# Altium schematic symbol library ADS8688.SchLib: 5 symbols
Pins are listed as number, name and electrical type; pins without a type are passive.

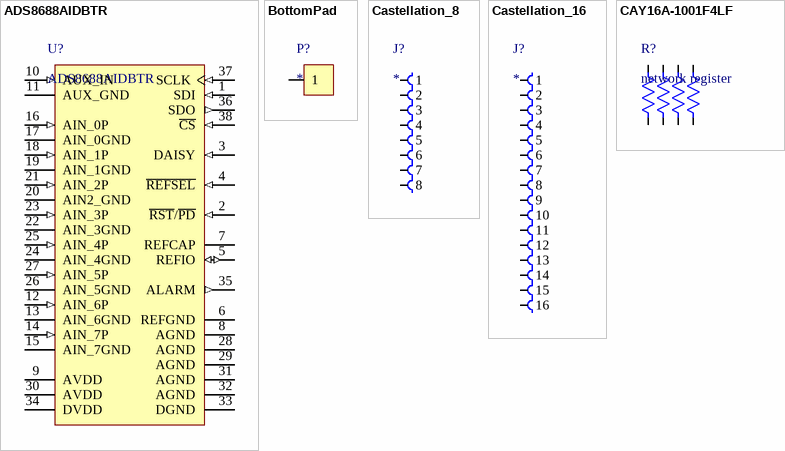
[diagram p0: symbols ADS8688AIDBTR to CAY16A-1001F4LF]

## ADS8688AIDBTR
designator U?
Single-Supply, SAR ADCs with Bipolar Input Ranges, 16 Bits, 500 kSPS, 8 Channel, -40 to 125 degC, 38-Pin TSSOP (DBT), Green (RoHS & no Sb/Br), Tape and Reel; Manufacturer: Texas Instruments; PartNumber: ADS8688IDBTR; THD: -102 dB; SNR: 92 dB; AVDD: 4.75 to 5.25 V; Input Channel: 8; Resolution: 16 Bits; Eco-Plan: Green (RoHS & no Sb/Br); Temperature Range: -40 to 125 degC; Mounting Technology: Surface Mount; DatasheetVersion: SBAS582B; Packing: Tape and Reel; PackageVersion: 4073252-6/I; Sample Rate: 500 kSPS; ComponentLink2Description: Datasheet; ComponentLink3Description: Package Specification; ComponentLink3URL: http://www.ti.com/lit/ml/mpds368/mpds368.pdf; ComponentLink1Description: Manufacturer URL; ComponentLink2URL: http://www.ti.com/lit/ds/symlink/ads8688.pdf; PackageDescription: 38-Pin Plastic Small Outline Package, Body 9.7 x 4.4 mm, Pitch 0.5 mm; ComponentLink1URL: www.ti.com; Supplier 1: DigiKey; Supplier Part Number 1: 296-ADS8688AIDBTRDKR-ND
footprint DBT38_N (TSSOP, 38-Leads, Body 9.7x4.4mm, Pitch 0.5mm, IPC Medium Density)
pins: 1 SDI (in) "Data input for serial communication", 2 ~{RST}/~{PD} (in) "Active low logic input. Dual functionality to reset or power-down the device.", 3 DAISY (in) "Chain the data input during serial communication in daisy-chain mode.", 4 ~{REFSEL} (in) "Active low logic input to enable the internal reference. When low, the internal reference is enabled; REFIO becomes an output that includes the VREF voltage.When high, the internal reference is disabled; REFIO becomes an input to apply the external VREF voltage.", 5 REFIO (io) "Internal reference output and external reference input pin. Decouple with REFGND on pin 6.", 6 REFGND (power) "Reference GND pin; short to the analog GND plane. Decouple with REFIO on pin 5 and REFCAP on pin 7.", 7 REFCAP "ADC reference decoupling capacitor pin. Decouple with REFGND on pin 6.", 8 AGND (power) "Analog ground pin. Decouple with AVDD on pin 9.", 9 AVDD (power) "Analog supply pin. Decouple with AGND on pin 8.", 10 AUX_IN (in) "Auxiliary input channel: positive input. Decouple with AUX_GND on pin 11.", 11 AUX_GND (power) "Auxiliary input channel: negative input. Decouple with AUX_IN on pin 10.", 12 AIN_6P (in) "Analog input channel 6: Positive input. Decouple with AIN_6GND on pin 13. No connection for the ADS8684: this pin can be left floating or connected to AGND.", 13 AIN_6GND (power) "Analog input channel 6: negative input. Decouple with AIN_6P on pin 12. No connection for the ADS8684: this pin can be left floating or connected to AGND.", 14 AIN_7P (in) "Analog input channel 7: positive input. Decouple with AIN_7GND on pin 15. No connection for the ADS8684: this pin can be left floating or connected to AGND.", 15 AIN_7GND (power) "Analog input channel 7: negative input. Decouple with AIN_7P on pin 14. No connection for the ADS8684: this pin can be left floating or connected to AGND.", 16 AIN_0P (in) "Analog input channel 0: positive input. Decouple with AIN_0GND on pin 17.", 17 AIN_0GND (power) "Analog input channel 0: negative input. Decouple with AIN_0P on pin 16.", 18 AIN_1P (in) "Analog input channel 1: positive input. Decouple with AIN_1GND on pin 19.", 19 AIN_1GND (power) "Analog input channel 1: negative input. Decouple with AIN_1P on pin 18.", 20 AIN2_GND (power) "Analog input channel 2: positive input. Decouple with AIN_2GND on pin 21.", 21 AIN_2P (in) "Analog input channel 2: negative input. Decouple with AIN_2P on pin 20.", 22 AIN_3GND (power) "Analog input channel 3: positive input. Decouple with AIN_3GND on pin 23.", 23 AIN_3P (in) "Analog input channel 3: negative input. Decouple with AIN_3P on pin 22.", 24 AIN_4GND (power) "Analog input channel 4: positive input. Decouple with AIN_4GND on pin 25. No connection for the ADS8684: this pin can be left floating or connected to AGND.", 25 AIN_4P (in) "Analog input channel 4: negative input. Decouple with AIN_4P on pin 24. No connection for the ADS8684: this pin can be left floating or connected to AGND.", 26 AIN_5GND (power) "Analog input channel 5: positive input. Decouple with AIN_5GND on pin 27. No connection for the ADS8684: this pin can be left floating or connected to AGND.", 27 AIN_5P (in) "Analog input channel 5: negative input. Decouple with AIN_5P on pin 26. No connection for the ADS8684: this pin can be left floating or connected to AGND.", 28 AGND (power) "Analog ground pin", 29 AGND (power) "Analog ground pin", 30 AVDD (power) "Analog supply pin. Decouple with AGND on pin 31.", 31 AGND (power) "Analog ground pin. Decouple with AVDD on pin 30.", 32 AGND (power) "Analog ground pin", 33 DGND (power) "Digital ground pin. Decouple with DVDD on pin 34.", 34 DVDD (power) "Digital supply pin. Decouple with DGND on pin 33.", 35 ALARM (out) "Do not connect this pin to any node; must remain floating.", 36 SDO (out) "Data output for serial communication", 37 SCLK (in) "Clock input for serial communication", 38 ~{CS} (in) "Active low logic input; chip-select signal"

## BottomPad
designator P?  (no BOM)
footprint BottomPad
pins: 1

## Castellation_8
designator J?  (no BOM)
8 holes
footprint Castellation_8_hole
pins: 1, 2, 3, 4, 5, 6, 7, 8

## Castellation_16
designator J?  (no BOM)
8 holes
footprint Castellation_16_hole
pins: 1, 2, 3, 4, 5, 6, 7, 8, 9, 10, 11, 12, 13, 14, 15, 16

## CAY16A-1001F4LF
designator R?, comment network register
Supplier 1: Farnell; Supplier Part Number 1: CAY16A-1001F4LF.
footprint CAY16A-1001F4LF (1kΩ Register array)
pins: 1, 2, 3, 4, 5, 6, 7, 8